# Altium schematic symbol library LP38691SD-ADJ.SchLib: 1 symbol
Pins are listed as number, name and electrical type; pins without a type are passive.

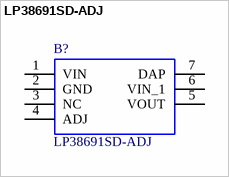
[diagram p0: symbol LP38691SD-ADJ]

## LP38691SD-ADJ
designator B?
500mA LDO Regulator Adj.,LP38691SD-ADJ; Manufacturer_Name: Texas Instruments; Geometry.Height: 0.8mm; Supplier_Name: Mouser; Mouser Part Number: 926-LP38691SD-ADJ; Manufacturer_Part_Number: LP38691SD-ADJ; Datasheet Link: http://www.ti.com/lit/ds/symlink/lp38691-adj.pdf; 3D Package: *
footprint SON95P300X300X80-7N
pins: 1 VIN, 2 GND, 3 NC, 4 ADJ, 5 VOUT, 6 VIN_1, 7 DAP